# Altium schematic symbol library 78L05.SCHLIB: 1 symbol
Pins are listed as number, name and electrical type; pins without a type are passive.

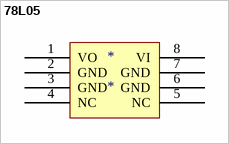
[diagram p0: symbol 78L05]

## 78L05
designator *
footprint lm358
pins: 1 VO, 2 GND, 3 GND, 4 NC, 5 NC, 6 GND, 7 GND, 8 VI